# Altium schematic symbol library TPS76333DBVT.SchLib: 1 symbol
Pins are listed as number, name and electrical type; pins without a type are passive.

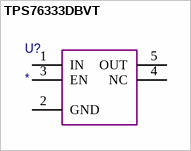
[diagram p0: symbol TPS76333DBVT]

## TPS76333DBVT
designator U?
pins: 1 IN, 2 GND, 3 EN, 4 NC, 5 OUT